# Altium footprint library Air_Logger_PCB_ver2.PcbLib: 35 footprints (part 1 of 3)
Each footprint in its own frame and in the unit in brackets; x right, y up, seen from the top. Pads: shape width x height; smd on the part's side, far side on the other; paste and mask are expansions set on the pad; w line width, h text height; cw(c..) or ccw(c..) is an arc to the next point about the centre after c.
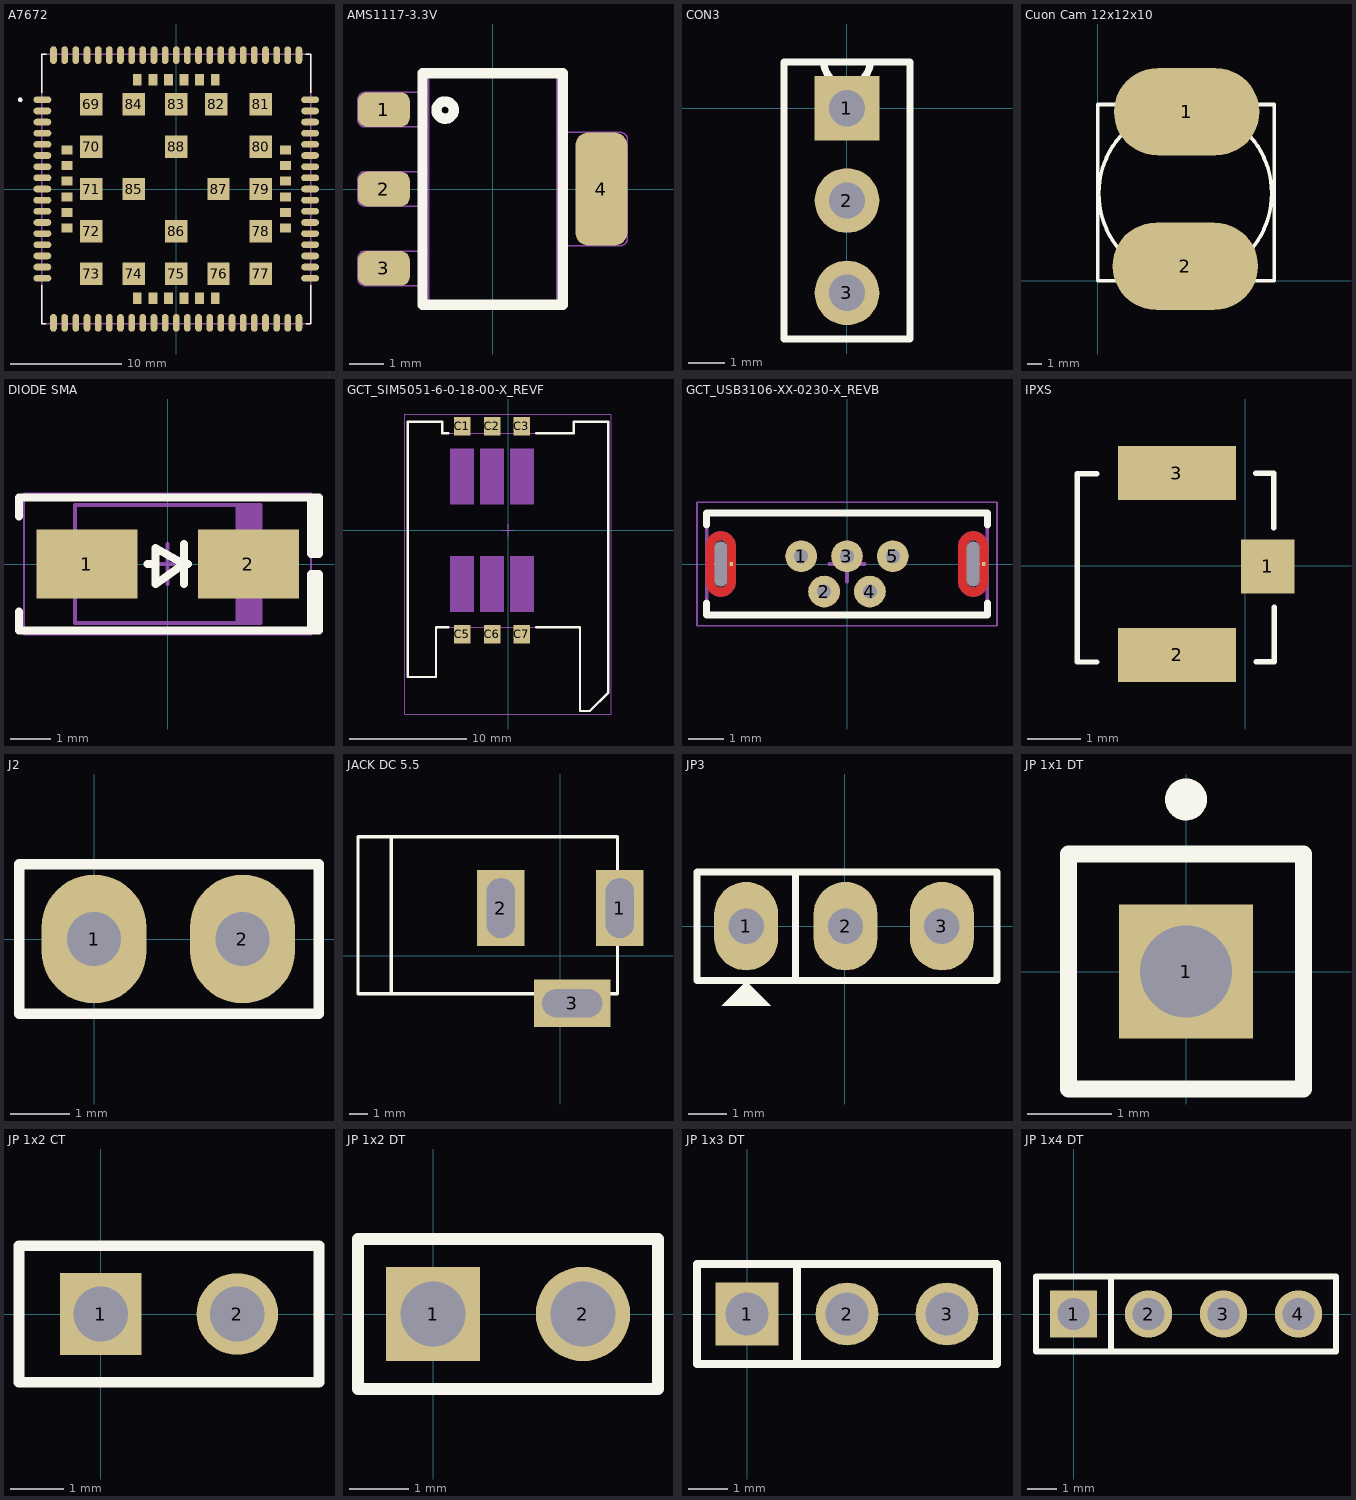
[diagram p0: the footprints below, top view; thin cyan lines are the x and y axes]

## A7672 [mm]
pads (124):
  oval 1.6x0.6 smd: 1(-12,8) 2(-12,7) 3(-12,6) 4(-12,5) 5(-12,4) 6(-12,3) 7(-12,2) 8(-12,1) 9(-12,0) 10(-12,-1) 11(-12,-2) 12(-12,-3) 13(-12,-4) 14(-12,-5) 15(-12,-6) 16(-12,-7) 17(-12,-8) 35(12,-8) 36(12,-7) 37(12,-6) 38(12,-5) 39(12,-4) 40(12,-3) 41(12,-2) 42(12,-1) 43(12,0) 44(12,1) 45(12,2) 46(12,3) 47(12,4) 48(12,5) 49(12,6) 50(12,7) 51(12,8)
  oval 0.6x1.6 smd: 18(-8,-12) 19(-7,-12) 20(-6,-12) 21(-5,-12) 22(-4,-12) 23(-3,-12) 24(-2,-12) 25(-1,-12) 26(0,-12) 27(1,-12) 28(2,-12) 29(3,-12) 30(4,-12) 31(5,-12) 32(6,-12) 33(7,-12) 34(8,-12) 52(8,12) 53(7,12) 54(6,12) 55(5,12) 56(4,12) 57(3,12) 58(2,12) 59(1,12) 60(0,12) 61(-1,12) 62(-2,12) 63(-3,12) 64(-4,12) 65(-5,12) 66(-6,12) 67(-7,12) 68(-8,12) 89(-11.01,-12) 90(-10.01,-12) 91(-9,-12) 92(9,-12) 93(10,-12) 94(11,-12) 95(11,12) 96(10,12) 97(9,12) 98(-9.01,12) 99(-10.01,12) 100(-11.01,12)
  rect 2x2 smd: 69(-7.611,7.6) 70(-7.611,3.8) 71(-7.611,0) 72(-7.611,-3.8) 73(-7.611,-7.6) 74(-3.811,-7.6) 75(-0.011,-7.6) 76(3.789,-7.6) 77(7.589,-7.6) 78(7.589,-3.8) 79(7.589,0) 80(7.589,3.8) 81(7.589,7.6) 82(3.589,7.6) 83(-0.011,7.6) 84(-3.811,7.6) 85(-3.811,0) 86(-0.011,-3.8) 87(3.789,0) 88(-0.011,3.8)
  rect 1x0.8 smd: 101(-9.81,3.5) 102(-9.81,2.1) 103(-9.81,0.7) 104(-9.81,-0.7) 105(-9.81,-2.1) 106(-9.81,-3.5) 113(9.79,-3.5) 114(9.79,-2.1) 115(9.79,-0.7) 116(9.79,0.7) 117(9.79,2.1) 118(9.79,3.5)
  rect 0.8x1 smd: 107(-3.5,-9.8) 108(-2.1,-9.8) 109(-0.7,-9.8) 110(0.7,-9.8) 111(2.1,-9.8) 112(3.5,-9.8) 119(3.5,9.8) 120(2.1,9.8) 121(0.7,9.8) 122(-0.7,9.8) 123(-2.1,9.8) 124(-3.5,9.8)
Top Overlay:
  circle w0.2: c-14,8 r0.1
  lines w0.127: -12.075,-8.62 -12.075,-12.075 -11.695,-12.075 ; -12.075,8.62 -12.075,12.075 -11.67,12.075 ; 11.622,12.075 12.075,12.075 12.075,8.62 ; 11.673,-12.075 12.075,-12.075 12.075,-8.62
Mechanical 13:
  circle w0.2: c-14,8 r0.1
  lines w0.127: -12.075,-12.075 12.075,-12.075 12.075,12.075 -12.075,12.075 -12.075,-12.075
3D body: height 0.6, standoff 0, extent -12.04,-11.938 12.014,12.09
3D body: height 1.2, standoff 0.6, extent -11.633,-11.633 11.557,11.557

## AMS1117-3.3V [mm]
pads (4):
  rrect50% 1.5x1 smd: 1(-3.15,2.3) 2(-3.15,0) 3(-3.15,-2.3)
  rrect50% 1.5x3.28 smd: 4(3.15,0)
Top Overlay:
  circle w0.3: c-1.375,2.286 r0.25
  lines w0.3: -2.032,-3.355 -2.032,3.355 2.032,3.355 2.032,-3.355 -2.032,-3.355
Mechanical 1:
  lines w0.05: -1.89,1.8 -3.7,1.8 cw(c-3.7,2) -3.9,2 -3.9,2.6 cw(c-3.7,2.6) -3.7,2.8 -1.89,2.8 ; -1.855,-2.8 -3.7,-2.8 cw(c-3.7,-2.6) -3.9,-2.6 -3.9,-2 cw(c-3.7,-2) -3.7,-1.8 -1.855,-1.8 ; -1.855,-0.5 -3.7,-0.5 cw(c-3.7,-0.3) -3.9,-0.3 -3.9,0.3 cw(c-3.7,0.3) -3.7,0.5 -1.855,0.5 ; 1.855,-1.64 3.7,-1.64 ccw(c3.7,-1.44) 3.9,-1.44 3.9,1.44 ccw(c3.7,1.44) 3.7,1.64 1.855,1.64 ; -1.855,-3.355 1.855,-3.355 1.855,3.355 -1.855,3.355 -1.855,-3.355
  text "3" at -1.575,-1.89 h1.2
  text "2" at -1.575,0.315 h1.2
  text "1" at -1.575,2.52 h1.2

## CON3 [mil]
pads (3):
  rect 70x70 hole 39.37: 1(0,0)
  round 70 hole 39.37: 2(0,-100) 3(0,-200)
Top Overlay:
  lines w7.87: -68.31,-250 -68.31,50 25,50 cw(c0,50) -25,50 68.31,50 68.31,-250 -68.31,-250

## Cuon Cam 12x12x10 [mm]
pads (2):
  oval 10x6 smd: 1(6.1,11.6) 2(6,1)
Top Overlay:
  circle w0.254: c6,6 r5.941
  lines w0.254: 0,0 0,12.1 12.1,12.1 12.1,9.2 12.1,0 0,0
3D body "CUON CAM CDRH127 3A SMD.step": height 7.51, standoff 0.06, extent 0.096,-0.202 12.096,12.14

## DIODE SMA [mm]
pads (2):
  rect 2.5x1.7 smd: 1(-2,0) 2(2,0)
Top Overlay:
  lines w0.2: -3.683,-1.175 -3.683,-1.651 3.75,-1.651 3.75,-0.254 3.556,-0.254 3.556,-1.651 ; -3.683,1.175 -3.683,1.651 3.75,1.651 3.75,0.254 3.556,0.254 3.556,1.651 ; -0.5,0 -0.3,0 ; 0.4,-0.5 0.4,0.5 ; 0.5,0 0.4,0 ; 0.4,0 -0.3,0.4 -0.3,-0.5 0.4,0
Mechanical 13:
  rectangle: 1.681,-1.46 2.3,1.46
  lines w0.1: -2.3,-1.46 -2.3,1.46 2.3,1.46 2.3,-1.46 -2.3,-1.46
Mechanical 15:
  lines w0.05: -3.556,-1.75 -3.556,1.75 3.556,1.75 3.556,-1.75 -3.556,-1.75
  lines w0.1: -0.5,0 0.5,0 ; 0,-0.5 0,0.5
3D body "SMA.STEP": height 2.4, standoff 0, extent -2.6,-1.375 2.6,1.375

## GCT_SIM5051-6-0-18-00-X_REVF [mm]
pads (6):
  rect 1.4x1.6 smd: C1(-3.9,8.85) C2(-1.36,8.85) C3(1.18,8.85) C5(-3.9,-8.85) C6(-1.36,-8.85) C7(1.18,-8.85)
Top Overlay:
  lines w0.2: -5.1,-8.25 -6.13,-8.25 -6.13,-12.5 -8.55,-12.5 -8.55,9.25 -5.6,9.25 -5.6,8.25 -5.1,8.25 ; 2.4,-8.25 6.13,-8.25 6.13,-15.4 6.97,-15.4 8.55,-13.82 8.55,9.25 5.6,9.25 5.6,8.25 2.4,8.25
Mechanical 13:
  lines w0.1: -8.55,-12.5 -6.13,-12.5 -6.13,-8.25 6.13,-8.25 6.13,-15.4 6.97,-15.4 8.55,-13.82 8.55,9.25 5.6,9.25 5.6,8.25 -5.6,8.25 -5.6,9.25 -8.55,9.25 -8.55,-12.5
Mechanical 15:
  region: -2.9,2.2 -4.9,2.2 -4.9,6.95 -2.9,6.95
  region: -2.9,-6.95 -4.9,-6.95 -4.9,-2.2 -2.9,-2.2
  region: 2.18,2.2 0.18,2.2 0.18,6.95 2.18,6.95
  region: -0.36,-6.95 -2.36,-6.95 -2.36,-2.2 -0.36,-2.2
  region: -0.36,2.2 -2.36,2.2 -2.36,6.95 -0.36,6.95
  region: 2.18,-6.95 0.18,-6.95 0.18,-2.2 2.18,-2.2
  lines w0.05: -8.8,-15.65 -8.8,9.9 8.8,9.9 8.8,-15.65 -8.8,-15.65
  lines w0.1: -0.5,0 0.5,0 ; 0,-0.5 0,0.5

## GCT_USB3106-XX-0230-X_REVB [mm]
pads (9):
  round 0.9 hole 0.4: 1(-1.3,0.22) 2(-0.65,-0.78) 3(0,0.22) 4(0.65,-0.78) 5(1.3,0.22)
  rect 0.1x0.1 smd paste-1 mask+0: 6(-3.275,0) 7(3.875,0)
  round 0.35 hole 0.35 slot 1.27 at 90 deg unplated paste+0 mask+0.102: ""(-3.575,0)
  round 0.35 hole 0.35 slot 1.27 at 90 deg unplated mask+0.102: ""(3.575,0)
Top Layer:
  region: 4,-0.5 3.999,-0.522 3.998,-0.544 3.995,-0.566 3.991,-0.588 3.986,-0.61 3.979,-0.631 3.972,-0.652 3.963,-0.673 3.954,-0.693 3.943,-0.713 3.931,-0.731 3.919,-0.75 3.905,-0.767 3.891,-0.784 3.876,-0.801 3.859,-0.816 3.842,-0.83 3.825,-0.844 3.806,-0.856 3.788,-0.868 3.768,-0.879 3.748,-0.888 3.727,-0.897 3.706,-0.904 3.685,-0.911 3.663,-0.916 3.641,-0.92 3.619,-0.923 3.597,-0.924 3.575,-0.925 3.553,-0.924 3.531,-0.923 3.509,-0.92 3.487,-0.916 3.465,-0.911 3.444,-0.904 3.423,-0.897 3.402,-0.888 3.382,-0.879 3.363,-0.868 3.344,-0.856 3.325,-0.844 3.308,-0.83 3.291,-0.816 3.274,-0.801 3.259,-0.784 3.245,-0.767 3.231,-0.75 3.219,-0.731 3.207,-0.713 3.196,-0.693 3.187,-0.673 3.178,-0.652 3.171,-0.631 3.164,-0.61 3.159,-0.588 3.155,-0.566 3.152,-0.544 3.151,-0.522 3.15,-0.5 3.15,0 3.4,0 3.4,-0.5 3.4,-0.509 3.401,-0.518 3.402,-0.527 3.404,-0.536 3.406,-0.545 3.409,-0.554 3.412,-0.563 3.415,-0.571 3.419,-0.579 3.423,-0.587 3.428,-0.595 3.433,-0.603 3.439,-0.61 3.445,-0.617 3.451,-0.624 3.458,-0.63 3.465,-0.636 3.472,-0.642 3.48,-0.647 3.487,-0.652 3.496,-0.656 3.504,-0.66 3.512,-0.663 3.521,-0.666 3.53,-0.669 3.539,-0.671 3.548,-0.673 3.557,-0.674 3.566,-0.675 3.575,-0.675 3.584,-0.675 3.593,-0.674 3.602,-0.673 3.611,-0.671 3.62,-0.669 3.629,-0.666 3.638,-0.663 3.646,-0.66 3.654,-0.656 3.662,-0.652 3.67,-0.647 3.678,-0.642 3.685,-0.636 3.692,-0.63 3.699,-0.624 3.705,-0.617 3.711,-0.61 3.717,-0.603 3.722,-0.595 3.727,-0.587 3.731,-0.579 3.735,-0.571 3.738,-0.563 3.741,-0.554 3.744,-0.545 3.746,-0.536 3.748,-0.527 3.749,-0.518 3.75,-0.509 3.75,-0.5 3.75,0 4,0
  region: 3.597,0.924 3.619,0.923 3.641,0.92 3.663,0.916 3.685,0.911 3.706,0.904 3.727,0.897 3.748,0.888 3.768,0.879 3.788,0.868 3.806,0.856 3.825,0.844 3.842,0.83 3.859,0.816 3.876,0.801 3.891,0.784 3.905,0.767 3.919,0.75 3.931,0.731 3.943,0.713 3.954,0.693 3.963,0.673 3.972,0.652 3.979,0.631 3.986,0.61 3.991,0.588 3.995,0.566 3.998,0.544 3.999,0.522 4,0.5 4,0 3.75,0 3.75,0.5 3.75,0.509 3.749,0.518 3.748,0.527 3.746,0.536 3.744,0.545 3.741,0.554 3.738,0.563 3.735,0.571 3.731,0.579 3.727,0.587 3.722,0.595 3.717,0.603 3.711,0.61 3.705,0.617 3.699,0.624 3.692,0.63 3.685,0.636 3.678,0.642 3.67,0.647 3.662,0.652 3.654,0.656 3.646,0.66 3.638,0.663 3.629,0.666 3.62,0.669 3.611,0.671 3.602,0.673 3.593,0.674 3.584,0.675 3.575,0.675 3.566,0.675 3.557,0.674 3.548,0.673 3.539,0.671 3.53,0.669 3.521,0.666 3.512,0.663 3.504,0.66 3.496,0.656 3.487,0.652 3.48,0.647 3.472,0.642 3.465,0.636 3.458,0.63 3.451,0.624 3.445,0.617 3.439,0.61 3.433,0.603 3.428,0.595 3.423,0.587 3.419,0.579 3.415,0.571 3.412,0.563 3.409,0.554 3.406,0.545 3.404,0.536 3.402,0.527 3.401,0.518 3.4,0.509 3.4,0.5 3.4,0 3.15,0 3.15,0.5 3.151,0.522 3.152,0.544 3.155,0.566 3.159,0.588 3.164,0.61 3.171,0.631 3.178,0.652 3.187,0.673 3.196,0.693 3.207,0.713 3.219,0.731 3.231,0.75 3.245,0.767 3.259,0.784 3.274,0.801 3.291,0.816 3.308,0.83 3.325,0.844 3.344,0.856 3.363,0.868 3.382,0.879 3.402,0.888 3.423,0.897 3.444,0.904 3.465,0.911 3.487,0.916 3.509,0.92 3.531,0.923 3.553,0.924 3.575,0.925
  region: -3.15,-0.5 -3.151,-0.522 -3.152,-0.544 -3.155,-0.566 -3.159,-0.588 -3.164,-0.61 -3.171,-0.631 -3.178,-0.652 -3.187,-0.673 -3.196,-0.693 -3.207,-0.713 -3.219,-0.731 -3.231,-0.75 -3.245,-0.767 -3.259,-0.784 -3.274,-0.801 -3.291,-0.816 -3.308,-0.83 -3.325,-0.844 -3.344,-0.856 -3.363,-0.868 -3.382,-0.879 -3.402,-0.888 -3.423,-0.897 -3.444,-0.904 -3.465,-0.911 -3.487,-0.916 -3.509,-0.92 -3.531,-0.923 -3.553,-0.924 -3.575,-0.925 -3.597,-0.924 -3.619,-0.923 -3.641,-0.92 -3.663,-0.916 -3.685,-0.911 -3.706,-0.904 -3.727,-0.897 -3.748,-0.888 -3.768,-0.879 -3.788,-0.868 -3.806,-0.856 -3.825,-0.844 -3.842,-0.83 -3.859,-0.816 -3.876,-0.801 -3.891,-0.784 -3.905,-0.767 -3.919,-0.75 -3.931,-0.731 -3.943,-0.713 -3.954,-0.693 -3.963,-0.673 -3.972,-0.652 -3.979,-0.631 -3.986,-0.61 -3.991,-0.588 -3.995,-0.566 -3.998,-0.544 -3.999,-0.522 -4,-0.5 -4,0 -3.75,0 -3.75,-0.5 -3.75,-0.509 -3.749,-0.518 -3.748,-0.527 -3.746,-0.536 -3.744,-0.545 -3.741,-0.554 -3.738,-0.563 -3.735,-0.571 -3.731,-0.579 -3.727,-0.587 -3.722,-0.595 -3.717,-0.603 -3.711,-0.61 -3.705,-0.617 -3.699,-0.624 -3.692,-0.63 -3.685,-0.636 -3.678,-0.642 -3.67,-0.647 -3.662,-0.652 -3.654,-0.656 -3.646,-0.66 -3.638,-0.663 -3.629,-0.666 -3.62,-0.669 -3.611,-0.671 -3.602,-0.673 -3.593,-0.674 -3.584,-0.675 -3.575,-0.675 -3.566,-0.675 -3.557,-0.674 -3.548,-0.673 -3.539,-0.671 -3.53,-0.669 -3.521,-0.666 -3.512,-0.663 -3.504,-0.66 -3.496,-0.656 -3.487,-0.652 -3.48,-0.647 -3.472,-0.642 -3.465,-0.636 -3.458,-0.63 -3.451,-0.624 -3.445,-0.617 -3.439,-0.61 -3.433,-0.603 -3.428,-0.595 -3.423,-0.587 -3.419,-0.579 -3.415,-0.571 -3.412,-0.563 -3.409,-0.554 -3.406,-0.545 -3.404,-0.536 -3.402,-0.527 -3.401,-0.518 -3.4,-0.509 -3.4,-0.5 -3.4,0 -3.15,0
  region: -3.553,0.924 -3.531,0.923 -3.509,0.92 -3.487,0.916 -3.465,0.911 -3.444,0.904 -3.423,0.897 -3.402,0.888 -3.382,0.879 -3.363,0.868 -3.344,0.856 -3.325,0.844 -3.308,0.83 -3.291,0.816 -3.274,0.801 -3.259,0.784 -3.245,0.767 -3.231,0.75 -3.219,0.731 -3.207,0.713 -3.196,0.693 -3.187,0.673 -3.178,0.652 -3.171,0.631 -3.164,0.61 -3.159,0.588 -3.155,0.566 -3.152,0.544 -3.151,0.522 -3.15,0.5 -3.15,0 -3.4,0 -3.4,0.5 -3.4,0.509 -3.401,0.518 -3.402,0.527 -3.404,0.536 -3.406,0.545 -3.409,0.554 -3.412,0.563 -3.415,0.571 -3.419,0.579 -3.423,0.587 -3.428,0.595 -3.433,0.603 -3.439,0.61 -3.445,0.617 -3.451,0.624 -3.458,0.63 -3.465,0.636 -3.472,0.642 -3.48,0.647 -3.487,0.652 -3.496,0.656 -3.504,0.66 -3.512,0.663 -3.521,0.666 -3.53,0.669 -3.539,0.671 -3.548,0.673 -3.557,0.674 -3.566,0.675 -3.575,0.675 -3.584,0.675 -3.593,0.674 -3.602,0.673 -3.611,0.671 -3.62,0.669 -3.629,0.666 -3.638,0.663 -3.646,0.66 -3.654,0.656 -3.662,0.652 -3.67,0.647 -3.678,0.642 -3.685,0.636 -3.692,0.63 -3.699,0.624 -3.705,0.617 -3.711,0.61 -3.717,0.603 -3.722,0.595 -3.727,0.587 -3.731,0.579 -3.735,0.571 -3.738,0.563 -3.741,0.554 -3.744,0.545 -3.746,0.536 -3.748,0.527 -3.749,0.518 -3.75,0.509 -3.75,0.5 -3.75,0 -4,0 -4,0.5 -3.999,0.522 -3.998,0.544 -3.995,0.566 -3.991,0.588 -3.986,0.61 -3.979,0.631 -3.972,0.652 -3.963,0.673 -3.954,0.693 -3.943,0.713 -3.931,0.731 -3.919,0.75 -3.905,0.767 -3.891,0.784 -3.876,0.801 -3.859,0.816 -3.842,0.83 -3.825,0.844 -3.806,0.856 -3.788,0.868 -3.768,0.879 -3.748,0.888 -3.727,0.897 -3.706,0.904 -3.685,0.911 -3.663,0.916 -3.641,0.92 -3.619,0.923 -3.597,0.924 -3.575,0.925
Bottom Layer:
  region: 4,-0.5 3.999,-0.522 3.998,-0.544 3.995,-0.566 3.991,-0.588 3.986,-0.61 3.979,-0.631 3.972,-0.652 3.963,-0.673 3.954,-0.693 3.943,-0.713 3.931,-0.731 3.919,-0.75 3.905,-0.767 3.891,-0.784 3.876,-0.801 3.859,-0.816 3.842,-0.83 3.825,-0.844 3.806,-0.856 3.788,-0.868 3.768,-0.879 3.748,-0.888 3.727,-0.897 3.706,-0.904 3.685,-0.911 3.663,-0.916 3.641,-0.92 3.619,-0.923 3.597,-0.924 3.575,-0.925 3.553,-0.924 3.531,-0.923 3.509,-0.92 3.487,-0.916 3.465,-0.911 3.444,-0.904 3.423,-0.897 3.402,-0.888 3.382,-0.879 3.363,-0.868 3.344,-0.856 3.325,-0.844 3.308,-0.83 3.291,-0.816 3.274,-0.801 3.259,-0.784 3.245,-0.767 3.231,-0.75 3.219,-0.731 3.207,-0.713 3.196,-0.693 3.187,-0.673 3.178,-0.652 3.171,-0.631 3.164,-0.61 3.159,-0.588 3.155,-0.566 3.152,-0.544 3.151,-0.522 3.15,-0.5 3.15,0 3.4,0 3.4,-0.5 3.4,-0.509 3.401,-0.518 3.402,-0.527 3.404,-0.536 3.406,-0.545 3.409,-0.554 3.412,-0.563 3.415,-0.571 3.419,-0.579 3.423,-0.587 3.428,-0.595 3.433,-0.603 3.439,-0.61 3.445,-0.617 3.451,-0.624 3.458,-0.63 3.465,-0.636 3.472,-0.642 3.48,-0.647 3.487,-0.652 3.496,-0.656 3.504,-0.66 3.512,-0.663 3.521,-0.666 3.53,-0.669 3.539,-0.671 3.548,-0.673 3.557,-0.674 3.566,-0.675 3.575,-0.675 3.584,-0.675 3.593,-0.674 3.602,-0.673 3.611,-0.671 3.62,-0.669 3.629,-0.666 3.638,-0.663 3.646,-0.66 3.654,-0.656 3.662,-0.652 3.67,-0.647 3.678,-0.642 3.685,-0.636 3.692,-0.63 3.699,-0.624 3.705,-0.617 3.711,-0.61 3.717,-0.603 3.722,-0.595 3.727,-0.587 3.731,-0.579 3.735,-0.571 3.738,-0.563 3.741,-0.554 3.744,-0.545 3.746,-0.536 3.748,-0.527 3.749,-0.518 3.75,-0.509 3.75,-0.5 3.75,0 4,0
  region: 3.597,0.924 3.619,0.923 3.641,0.92 3.663,0.916 3.685,0.911 3.706,0.904 3.727,0.897 3.748,0.888 3.768,0.879 3.788,0.868 3.806,0.856 3.825,0.844 3.842,0.83 3.859,0.816 3.876,0.801 3.891,0.784 3.905,0.767 3.919,0.75 3.931,0.731 3.943,0.713 3.954,0.693 3.963,0.673 3.972,0.652 3.979,0.631 3.986,0.61 3.991,0.588 3.995,0.566 3.998,0.544 3.999,0.522 4,0.5 4,0 3.75,0 3.75,0.5 3.75,0.509 3.749,0.518 3.748,0.527 3.746,0.536 3.744,0.545 3.741,0.554 3.738,0.563 3.735,0.571 3.731,0.579 3.727,0.587 3.722,0.595 3.717,0.603 3.711,0.61 3.705,0.617 3.699,0.624 3.692,0.63 3.685,0.636 3.678,0.642 3.67,0.647 3.662,0.652 3.654,0.656 3.646,0.66 3.638,0.663 3.629,0.666 3.62,0.669 3.611,0.671 3.602,0.673 3.593,0.674 3.584,0.675 3.575,0.675 3.566,0.675 3.557,0.674 3.548,0.673 3.539,0.671 3.53,0.669 3.521,0.666 3.512,0.663 3.504,0.66 3.496,0.656 3.487,0.652 3.48,0.647 3.472,0.642 3.465,0.636 3.458,0.63 3.451,0.624 3.445,0.617 3.439,0.61 3.433,0.603 3.428,0.595 3.423,0.587 3.419,0.579 3.415,0.571 3.412,0.563 3.409,0.554 3.406,0.545 3.404,0.536 3.402,0.527 3.401,0.518 3.4,0.509 3.4,0.5 3.4,0 3.15,0 3.15,0.5 3.151,0.522 3.152,0.544 3.155,0.566 3.159,0.588 3.164,0.61 3.171,0.631 3.178,0.652 3.187,0.673 3.196,0.693 3.207,0.713 3.219,0.731 3.231,0.75 3.245,0.767 3.259,0.784 3.274,0.801 3.291,0.816 3.308,0.83 3.325,0.844 3.344,0.856 3.363,0.868 3.382,0.879 3.402,0.888 3.423,0.897 3.444,0.904 3.465,0.911 3.487,0.916 3.509,0.92 3.531,0.923 3.553,0.924 3.575,0.925
  region: -3.15,-0.5 -3.151,-0.522 -3.152,-0.544 -3.155,-0.566 -3.159,-0.588 -3.164,-0.61 -3.171,-0.631 -3.178,-0.652 -3.187,-0.673 -3.196,-0.693 -3.207,-0.713 -3.219,-0.731 -3.231,-0.75 -3.245,-0.767 -3.259,-0.784 -3.274,-0.801 -3.291,-0.816 -3.308,-0.83 -3.325,-0.844 -3.344,-0.856 -3.363,-0.868 -3.382,-0.879 -3.402,-0.888 -3.423,-0.897 -3.444,-0.904 -3.465,-0.911 -3.487,-0.916 -3.509,-0.92 -3.531,-0.923 -3.553,-0.924 -3.575,-0.925 -3.597,-0.924 -3.619,-0.923 -3.641,-0.92 -3.663,-0.916 -3.685,-0.911 -3.706,-0.904 -3.727,-0.897 -3.748,-0.888 -3.768,-0.879 -3.788,-0.868 -3.806,-0.856 -3.825,-0.844 -3.842,-0.83 -3.859,-0.816 -3.876,-0.801 -3.891,-0.784 -3.905,-0.767 -3.919,-0.75 -3.931,-0.731 -3.943,-0.713 -3.954,-0.693 -3.963,-0.673 -3.972,-0.652 -3.979,-0.631 -3.986,-0.61 -3.991,-0.588 -3.995,-0.566 -3.998,-0.544 -3.999,-0.522 -4,-0.5 -4,0 -3.75,0 -3.75,-0.5 -3.75,-0.509 -3.749,-0.518 -3.748,-0.527 -3.746,-0.536 -3.744,-0.545 -3.741,-0.554 -3.738,-0.563 -3.735,-0.571 -3.731,-0.579 -3.727,-0.587 -3.722,-0.595 -3.717,-0.603 -3.711,-0.61 -3.705,-0.617 -3.699,-0.624 -3.692,-0.63 -3.685,-0.636 -3.678,-0.642 -3.67,-0.647 -3.662,-0.652 -3.654,-0.656 -3.646,-0.66 -3.638,-0.663 -3.629,-0.666 -3.62,-0.669 -3.611,-0.671 -3.602,-0.673 -3.593,-0.674 -3.584,-0.675 -3.575,-0.675 -3.566,-0.675 -3.557,-0.674 -3.548,-0.673 -3.539,-0.671 -3.53,-0.669 -3.521,-0.666 -3.512,-0.663 -3.504,-0.66 -3.496,-0.656 -3.487,-0.652 -3.48,-0.647 -3.472,-0.642 -3.465,-0.636 -3.458,-0.63 -3.451,-0.624 -3.445,-0.617 -3.439,-0.61 -3.433,-0.603 -3.428,-0.595 -3.423,-0.587 -3.419,-0.579 -3.415,-0.571 -3.412,-0.563 -3.409,-0.554 -3.406,-0.545 -3.404,-0.536 -3.402,-0.527 -3.401,-0.518 -3.4,-0.509 -3.4,-0.5 -3.4,0 -3.15,0
  region: -3.553,0.924 -3.531,0.923 -3.509,0.92 -3.487,0.916 -3.465,0.911 -3.444,0.904 -3.423,0.897 -3.402,0.888 -3.382,0.879 -3.363,0.868 -3.344,0.856 -3.325,0.844 -3.308,0.83 -3.291,0.816 -3.274,0.801 -3.259,0.784 -3.245,0.767 -3.231,0.75 -3.219,0.731 -3.207,0.713 -3.196,0.693 -3.187,0.673 -3.178,0.652 -3.171,0.631 -3.164,0.61 -3.159,0.588 -3.155,0.566 -3.152,0.544 -3.151,0.522 -3.15,0.5 -3.15,0 -3.4,0 -3.4,0.5 -3.4,0.509 -3.401,0.518 -3.402,0.527 -3.404,0.536 -3.406,0.545 -3.409,0.554 -3.412,0.563 -3.415,0.571 -3.419,0.579 -3.423,0.587 -3.428,0.595 -3.433,0.603 -3.439,0.61 -3.445,0.617 -3.451,0.624 -3.458,0.63 -3.465,0.636 -3.472,0.642 -3.48,0.647 -3.487,0.652 -3.496,0.656 -3.504,0.66 -3.512,0.663 -3.521,0.666 -3.53,0.669 -3.539,0.671 -3.548,0.673 -3.557,0.674 -3.566,0.675 -3.575,0.675 -3.584,0.675 -3.593,0.674 -3.602,0.673 -3.611,0.671 -3.62,0.669 -3.629,0.666 -3.638,0.663 -3.646,0.66 -3.654,0.656 -3.662,0.652 -3.67,0.647 -3.678,0.642 -3.685,0.636 -3.692,0.63 -3.699,0.624 -3.705,0.617 -3.711,0.61 -3.717,0.603 -3.722,0.595 -3.727,0.587 -3.731,0.579 -3.735,0.571 -3.738,0.563 -3.741,0.554 -3.744,0.545 -3.746,0.536 -3.748,0.527 -3.749,0.518 -3.75,0.509 -3.75,0.5 -3.75,0 -4,0 -4,0.5 -3.999,0.522 -3.998,0.544 -3.995,0.566 -3.991,0.588 -3.986,0.61 -3.979,0.631 -3.972,0.652 -3.963,0.673 -3.954,0.693 -3.943,0.713 -3.931,0.731 -3.919,0.75 -3.905,0.767 -3.891,0.784 -3.876,0.801 -3.859,0.816 -3.842,0.83 -3.825,0.844 -3.806,0.856 -3.788,0.868 -3.768,0.879 -3.748,0.888 -3.727,0.897 -3.706,0.904 -3.685,0.911 -3.663,0.916 -3.641,0.92 -3.619,0.923 -3.597,0.924 -3.575,0.925
Top Overlay:
  lines w0.2: -3.98,-1.1 -3.98,-1.45 3.98,-1.45 3.98,-1.1 ; -3.98,1.1 -3.98,1.45 3.98,1.45 3.98,1.1
Top Paste:
  drawing of 4 lines, arcs and shapes, not listed
Bottom Paste:
  drawing of 4 lines, arcs and shapes, not listed
Top Solder:
  region: 4.1,-1.027 3.054,-1.027 3.054,1.025 4.1,1.025
  region: -3.05,-1.025 -4.101,-1.025 -4.101,1.025 -3.05,1.025
Bottom Solder:
  region: 4.1,-1.026 3.053,-1.026 3.053,1.025 4.1,1.025
  region: -3.05,-1.026 -4.103,-1.026 -4.103,1.025 -3.05,1.025
Mechanical 1:
  lines w0: -3.75,-0.5 ccw(c-3.575,-0.5) -3.575,-0.675 ccw(c-3.575,-0.5) -3.4,-0.5 -3.4,0.5 ccw(c-3.575,0.5) -3.575,0.675 ccw(c-3.575,0.5) -3.75,0.5 -3.75,-0.5 ; 3.4,-0.5 ccw(c3.575,-0.5) 3.575,-0.675 ccw(c3.575,-0.5) 3.75,-0.5 3.75,0.5 ccw(c3.575,0.5) 3.575,0.675 ccw(c3.575,0.5) 3.4,0.5 3.4,-0.5
Mechanical 13:
  lines w0.1: -0.5,0 0.5,0 ; 0,-0.5 0,0.5 ; -3.98,-1.45 -3.98,1.45 3.98,1.45 3.98,-1.45 -3.98,-1.45
Mechanical 15:
  lines w0.05: -4.25,-1.75 4.25,-1.75 4.25,1.75 -4.25,1.75 -4.25,-1.75

## IPXS [mm]
pads (3):
  rect 1x1 smd: 1(0.415,-0.01)
  rect 2.2x1 smd: 2(-1.273,-1.658) 3(-1.278,1.729)
Top Overlay:
  lines w0.1: -2.767,-1.79 -3.13,-1.79 -3.13,1.716 -2.767,1.716 ; 0.193,1.726 0.524,1.726 0.524,0.709 ; 0.202,-1.783 0.533,-1.783 0.533,-0.766
3D body: height 1.55, standoff 0.2, extent -1.48,-0.238 -1.082,0.162
3D body: height 0.15, standoff 0, extent -2.056,-1.491 -0.488,-1.033
3D body: height 0.15, standoff 0, extent -2.829,-0.415 -2.38,0.419
3D body: height 1.55, standoff 0.2, extent -2.274,-1.036 -0.282,0.96
3D body: height 0.4, standoff 0.1, extent -2.569,-1.262 0.025,1.332
3D body: height 0.15, standoff 0, extent -2.056,1.103 -0.488,1.561
3D body: height 0.15, standoff 0, extent -0.141,-0.428 0.308,0.406

## J2 [mil]
pads (2):
  oval 70x86 hole 36: 1(0,0) 2(99,0)
Top Overlay:
  lines w7: -50,-50 150,-50 150,50 -50,50 -50,-50

## JACK DC 5.5 [mm]
pads (3):
  rect 2.54x4.064 hole 1.5 slot 3.2 at 90 deg: 1(3.175,2.54) 2(-3.175,2.54)
  rect 4.064x2.54 hole 1.5 slot 3.2 at 0 deg: 3(0.635,-2.54)
Top Overlay:
  lines w0.178: -9.017,-2.032 -9.017,6.35 ; -10.795,-2.032 3.048,-2.032 3.048,6.35 -10.795,6.35 -10.795,-2.032
3D body "SW3dPS-dc range - dc connector[4840.2201].STEP": height 11.02, standoff -3.48, extent -10.423,-2.67 3.404,6.836

## JP3 [mil]
pads (3):
  oval 65x90 hole 36: 1(-100,0) 2(1,0) 3(99,0)
Top Overlay:
  region: -100,-56 -125,-81 -75,-81
  lines w7: -50,-55 -50,55 ; -150,-55 -150,55 155,55 155,-55 -150,-55
3D body "pin_header_aw140-eg-g03d.stp": height 354.33, standoff -86.61, extent -146.05,-49.04 153.94,49.32

## JP 1x1 DT [mm]
pads (1):
  rect 1.6x1.6 hole 1.1: 1(0,0)
Top Overlay:
  circle w0.25: c0,2.05 r0.125
  lines w0.2: -1.4,-1.4 -1.4,1.4 1.4,1.4 1.4,-1.4 -1.4,-1.4
3D body "61300111121.stp": height 8.54, standoff -3, extent -1.27,-1.27 1.27,1.27

## JP 1x2 CT [mm]
pads (2):
  rect 1.52x1.52 hole 1.02: 1(0,0)
  round 1.52 hole 1.02: 2(2.54,0)
Top Overlay:
  lines w0.2: -1.52,-1.27 -1.52,1.27 4.06,1.27 4.06,-1.27 -1.52,-1.27
3D body "61300211821.stp": height 8.51, standoff -3.09, extent -1.52,-1.25 4.06,1.25

## JP 1x2 DT [mm]
pads (2):
  rect 1.6x1.6 hole 1.1: 1(0,0)
  round 1.6 hole 1.1: 2(2.54,0)
Top Overlay:
  lines w0.2: -1.27,-1.27 3.81,-1.27 3.81,1.27 -1.27,1.27 -1.27,-1.27
3D body "61300211121.stp": height 8.54, standoff -3, extent -1.27,-1.27 3.81,1.27

## JP 1x3 DT [mm]
pads (3):
  rect 1.6x1.6 hole 1.1: 1(0,0)
  round 1.6 hole 1.1: 2(2.54,0) 3(5.08,0)
Top Overlay:
  lines w0.2: 1.27,-1.27 1.27,1.27 ; -1.27,-1.27 6.35,-1.27 6.35,1.27 -1.27,1.27 -1.27,-1.27
3D body "61300311121.stp": height 8.54, standoff -3, extent -1.27,-1.27 6.35,1.27

## JP 1x4 DT [mm]
pads (4):
  rect 1.6x1.6 hole 1.1: 1(0,0)
  round 1.6 hole 1.1: 2(2.54,0) 3(5.08,0) 4(7.62,0)
Top Overlay:
  lines w0.2: 1.27,-1.27 1.27,1.27 ; -1.27,-1.27 -1.27,1.27 8.89,1.27 8.89,-1.27 -1.27,-1.27
3D body "61300411121.stp": height 8.54, standoff -3, extent -1.27,-1.27 8.89,1.27